# Altium schematic symbol library Intel.SchLib: 3 symbols
Pins are listed as number, name and electrical type; pins without a type are passive.

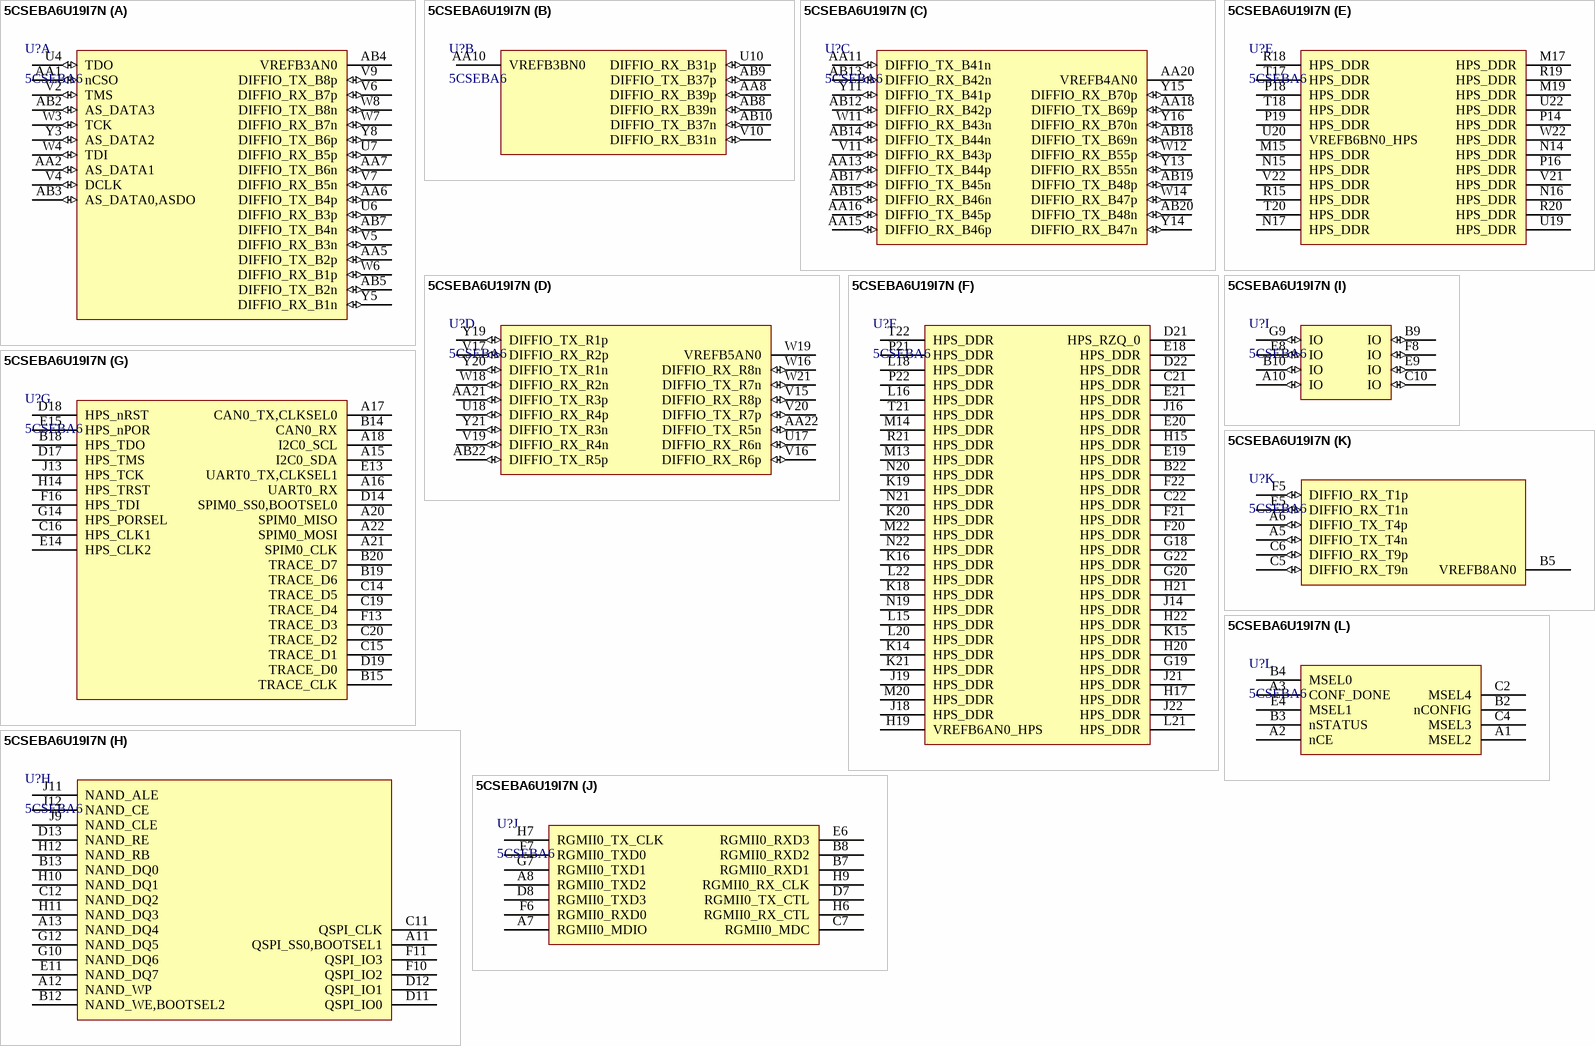
[diagram p0: symbol 5CSEBA6U19I7N]

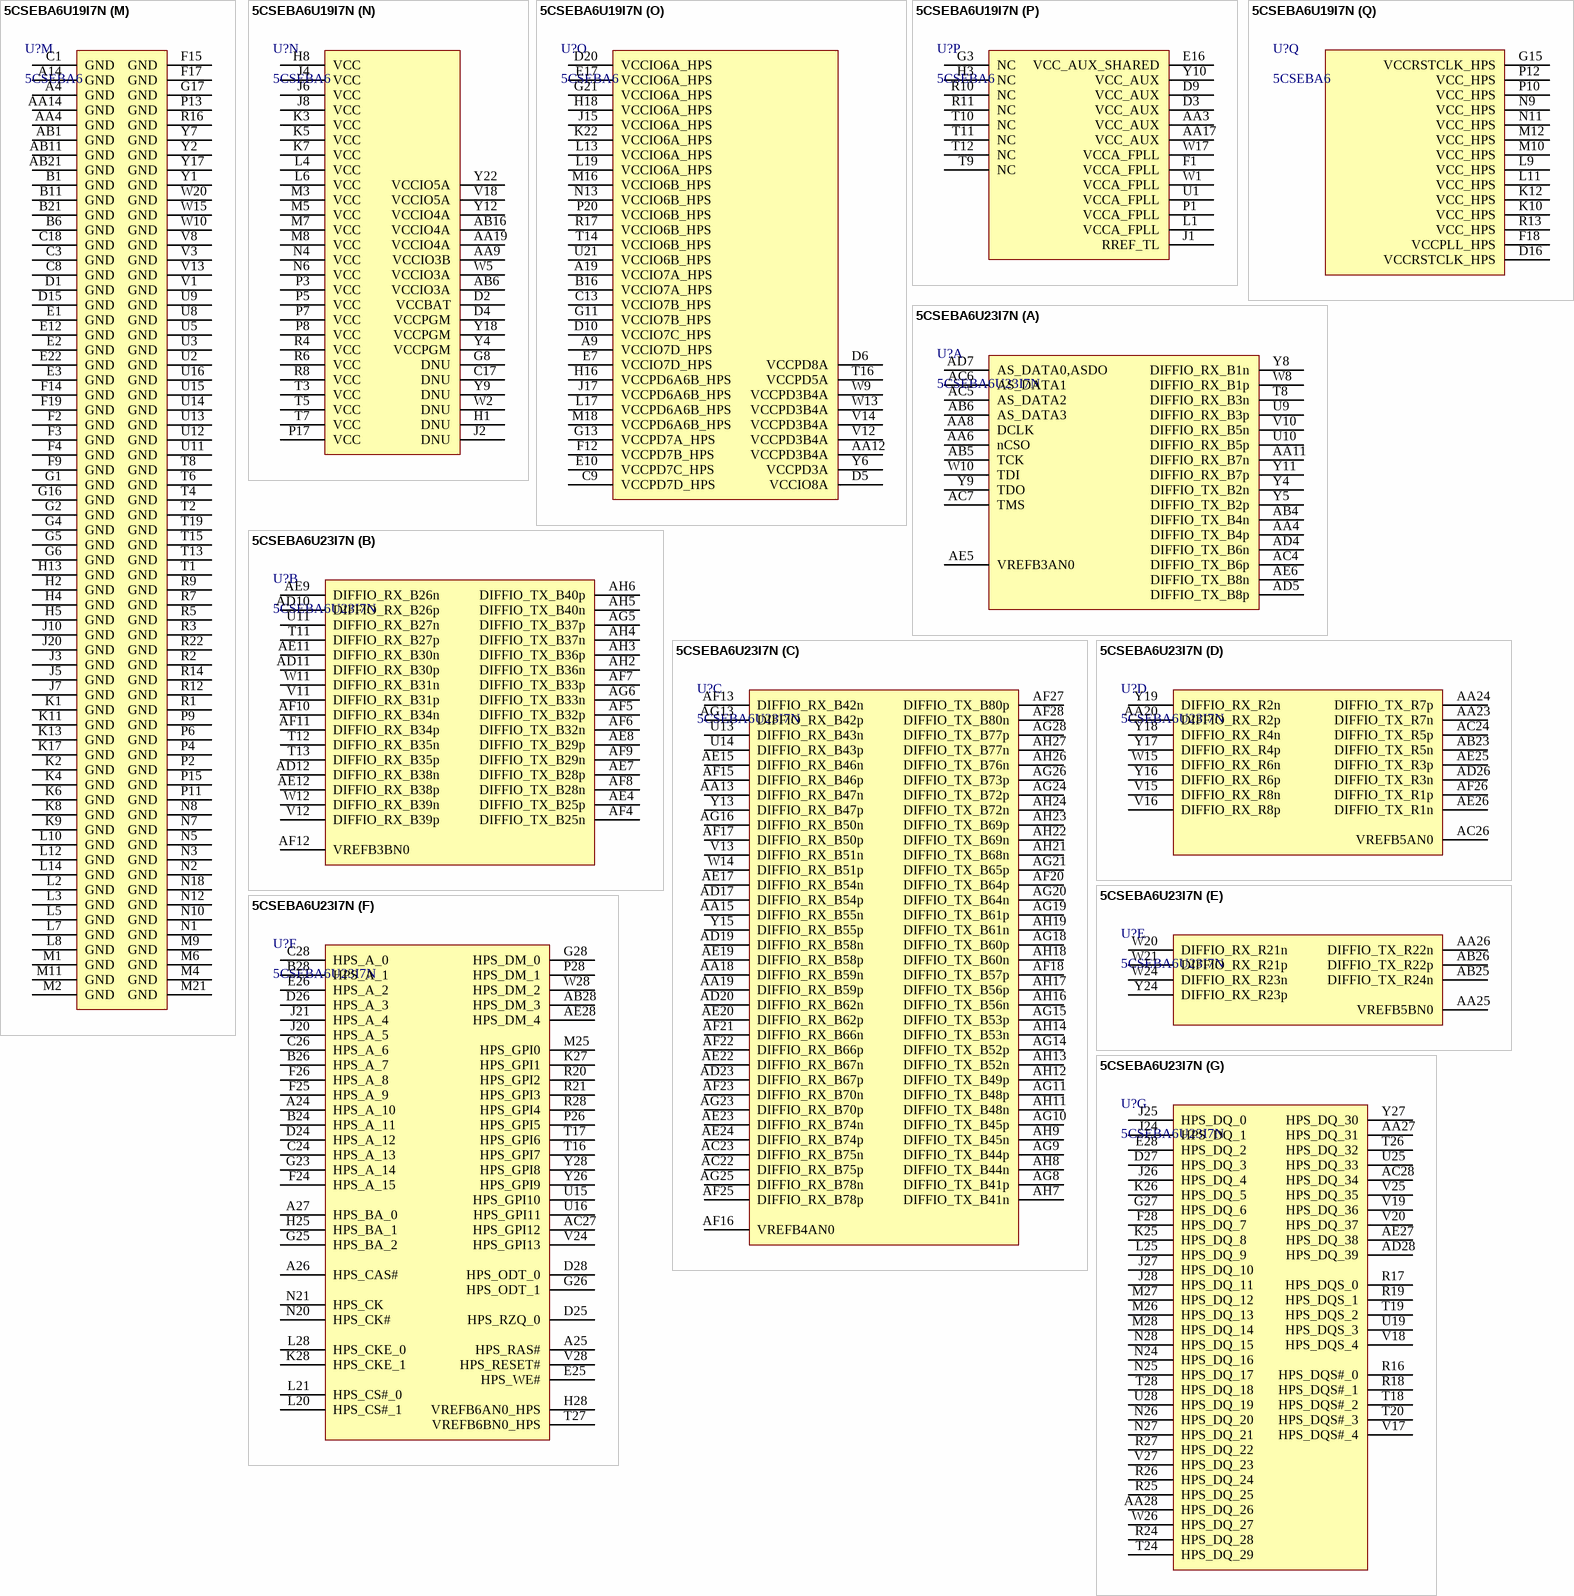
[diagram p1: symbols 5CSEBA6U19I7N to 5CSEBA6U23I7N]

## 5CSEBA6U19I7N
designator U?, comment 5CSEBA6
U19
part A pins: AA1 nCSO (io), AA2 AS_DATA1 (io), AA5 DIFFIO_TX_B2p (io), AA6 DIFFIO_TX_B4p (io), AA7 DIFFIO_TX_B6n (io), AB2 AS_DATA3 (io), AB3 AS_DATA0,ASDO (io), AB4 VREFB3AN0, AB5 DIFFIO_TX_B2n (io), AB7 DIFFIO_TX_B4n (io), U4 TDO (io), U6 DIFFIO_RX_B3p (io), U7 DIFFIO_RX_B5p (io), V2 TMS (io), V4 DCLK (io), V5 DIFFIO_RX_B3n (io), V6 DIFFIO_RX_B7p (io), V7 DIFFIO_RX_B5n (io), V9 DIFFIO_TX_B8p (io), W3 TCK (io), W4 TDI (io), W6 DIFFIO_RX_B1p (io), W7 DIFFIO_RX_B7n (io), W8 DIFFIO_TX_B8n (io), Y3 AS_DATA2 (io), Y5 DIFFIO_RX_B1n (io), Y8 DIFFIO_TX_B6p (io)
part B pins: AA8 DIFFIO_RX_B39p (io), AA10 VREFB3BN0, AB8 DIFFIO_RX_B39n (io), AB9 DIFFIO_TX_B37p (io), AB10 DIFFIO_TX_B37n (io), U10 DIFFIO_RX_B31p (io), V10 DIFFIO_RX_B31n (io)
part C pins: AA11 DIFFIO_TX_B41n (io), AA13 DIFFIO_TX_B44p (io), AA15 DIFFIO_RX_B46p (io), AA16 DIFFIO_TX_B45p (io), AA18 DIFFIO_TX_B69p (io), AA20 VREFB4AN0, AB12 DIFFIO_RX_B42p (io), AB13 DIFFIO_RX_B42n (io), AB14 DIFFIO_TX_B44n (io), AB15 DIFFIO_RX_B46n (io), AB17 DIFFIO_TX_B45n (io), AB18 DIFFIO_TX_B69n (io), AB19 DIFFIO_TX_B48p (io), AB20 DIFFIO_TX_B48n (io), V11 DIFFIO_RX_B43p (io), W11 DIFFIO_RX_B43n (io), W12 DIFFIO_RX_B55p (io), W14 DIFFIO_RX_B47p (io), Y11 DIFFIO_TX_B41p (io), Y13 DIFFIO_RX_B55n (io), Y14 DIFFIO_RX_B47n (io), Y15 DIFFIO_RX_B70p (io), Y16 DIFFIO_RX_B70n (io)
part D pins: AA21 DIFFIO_TX_R3p (io), AA22 DIFFIO_TX_R5n (io), AB22 DIFFIO_TX_R5p (io), U17 DIFFIO_RX_R6n (io), U18 DIFFIO_RX_R4p (io), V15 DIFFIO_RX_R8p (io), V16 DIFFIO_RX_R6p (io), V17 DIFFIO_RX_R2p (io), V19 DIFFIO_RX_R4n (io), V20 DIFFIO_TX_R7p (io), W16 DIFFIO_RX_R8n (io), W18 DIFFIO_RX_R2n (io), W19 VREFB5AN0, W21 DIFFIO_TX_R7n (io), Y19 DIFFIO_TX_R1p (io), Y20 DIFFIO_TX_R1n (io), Y21 DIFFIO_TX_R3n (io)
part E pins: M15 HPS_DDR, M17 HPS_DDR, M19 HPS_DDR, N14 HPS_DDR, N15 HPS_DDR, N16 HPS_DDR, N17 HPS_DDR, P14 HPS_DDR, P16 HPS_DDR, P18 HPS_DDR, P19 HPS_DDR, R15 HPS_DDR, R18 HPS_DDR, R19 HPS_DDR, R20 HPS_DDR, T17 HPS_DDR, T18 HPS_DDR, T20 HPS_DDR, U19 HPS_DDR, U20 VREFB6BN0_HPS, U22 HPS_DDR, V21 HPS_DDR, V22 HPS_DDR, W22 HPS_DDR
part F pins: B22 HPS_DDR, C21 HPS_DDR, C22 HPS_DDR, D21 HPS_RZQ_0, D22 HPS_DDR, E18 HPS_DDR, E19 HPS_DDR, E20 HPS_DDR, E21 HPS_DDR, F20 HPS_DDR, F21 HPS_DDR, F22 HPS_DDR, G18 HPS_DDR, G19 HPS_DDR, G20 HPS_DDR, G22 HPS_DDR, H15 HPS_DDR, H17 HPS_DDR, H19 VREFB6AN0_HPS, H20 HPS_DDR, H21 HPS_DDR, H22 HPS_DDR, J14 HPS_DDR, J16 HPS_DDR, J18 HPS_DDR, J19 HPS_DDR, J21 HPS_DDR, J22 HPS_DDR, K14 HPS_DDR, K15 HPS_DDR, K16 HPS_DDR, K18 HPS_DDR, K19 HPS_DDR, K20 HPS_DDR, K21 HPS_DDR, L15 HPS_DDR, L16 HPS_DDR, L18 HPS_DDR, L20 HPS_DDR, L21 HPS_DDR, L22 HPS_DDR, M13 HPS_DDR, M14 HPS_DDR, M20 HPS_DDR, M22 HPS_DDR, N19 HPS_DDR, N20 HPS_DDR, N21 HPS_DDR, N22 HPS_DDR, P21 HPS_DDR, P22 HPS_DDR, R21 HPS_DDR, T21 HPS_DDR, T22 HPS_DDR
part G pins: A15 I2C0_SDA, A16 UART0_RX, A17 CAN0_TX,CLKSEL0, A18 I2C0_SCL, A20 SPIM0_MISO, A21 SPIM0_CLK, A22 SPIM0_MOSI, B14 CAN0_RX, B15 TRACE_CLK, B18 HPS_TDO, B19 TRACE_D6, B20 TRACE_D7, C14 TRACE_D5, C15 TRACE_D1, C16 HPS_CLK1, C19 TRACE_D4, C20 TRACE_D2, D14 SPIM0_SS0,BOOTSEL0, D17 HPS_TMS, D18 HPS_nRST, D19 TRACE_D0, E13 UART0_TX,CLKSEL1, E14 HPS_CLK2, E15 HPS_nPOR, F13 TRACE_D3, F16 HPS_TDI, G14 HPS_PORSEL, H14 HPS_TRST, J13 HPS_TCK
part H pins: A11 QSPI_SS0,BOOTSEL1, A12 NAND_WP, A13 NAND_DQ4, B12 NAND_WE,BOOTSEL2, B13 NAND_DQ0, C11 QSPI_CLK, C12 NAND_DQ2, D11 QSPI_IO0, D12 QSPI_IO1, D13 NAND_RE, E11 NAND_DQ7, F10 QSPI_IO2, F11 QSPI_IO3, G10 NAND_DQ6, G12 NAND_DQ5, H10 NAND_DQ1, H11 NAND_DQ3, H12 NAND_RB, J9 NAND_CLE, J11 NAND_ALE, J12 NAND_CE
part I pins: A10 IO (io), B9 IO (io), B10 IO (io), C10 IO (io), E8 IO (io), E9 IO (io), F8 IO (io), G9 IO (io)
part J pins: A7 RGMII0_MDIO, A8 RGMII0_TXD2, B7 RGMII0_RXD1, B8 RGMII0_RXD2, C7 RGMII0_MDC, D7 RGMII0_TX_CTL, D8 RGMII0_TXD3, E6 RGMII0_RXD3, F6 RGMII0_RXD0, F7 RGMII0_TXD0, G7 RGMII0_TXD1, H6 RGMII0_RX_CTL, H7 RGMII0_TX_CLK, H9 RGMII0_RX_CLK
part K pins: A5 DIFFIO_TX_T4n (io), A6 DIFFIO_TX_T4p (io), B5 VREFB8AN0, C5 DIFFIO_RX_T9n (io), C6 DIFFIO_RX_T9p (io), E5 DIFFIO_RX_T1n (io), F5 DIFFIO_RX_T1p (io)
part L pins: A1 MSEL2, A2 nCE, A3 CONF_DONE, B2 nCONFIG, B3 nSTATUS, B4 MSEL0, C2 MSEL4, C4 MSEL3, E4 MSEL1
part M pins: A4 GND, A14 GND, AA4 GND, AA14 GND, AB1 GND, AB11 GND, AB21 GND, B1 GND, B6 GND, B11 GND, B21 GND, C1 GND, C3 GND, C8 GND, C18 GND, D1 GND, D15 GND, E1 GND, E2 GND, E3 GND, E12 GND, E22 GND, F2 GND, F3 GND, F4 GND, F9 GND, F14 GND, F15 GND, F17 GND, F19 GND, G1 GND, G2 GND, G4 GND, G5 GND, G6 GND, G16 GND, G17 GND, H2 GND, H4 GND, H5 GND, H13 GND, J3 GND, J5 GND, J7 GND, J10 GND, J20 GND, K1 GND, K2 GND, K4 GND, K6 GND, K8 GND, K9 GND, K11 GND, K13 GND, K17 GND, L2 GND, L3 GND, L5 GND, L7 GND, L8 GND, L10 GND, L12 GND, L14 GND, M1 GND, M2 GND, M4 GND, M6 GND, M9 GND, M11 GND, M21 GND, N1 GND, N2 GND, N3 GND, N5 GND, N7 GND, N8 GND, N10 GND, N12 GND, N18 GND, P2 GND, P4 GND, P6 GND, P9 GND, P11 GND, P13 GND, P15 GND, R1 GND, R2 GND, R3 GND, R5 GND, R7 GND, R9 GND, R12 GND, R14 GND, R16 GND, R22 GND, T1 GND, T2 GND, T4 GND, T6 GND, T8 GND, T13 GND, T15 GND, T19 GND, U2 GND, U3 GND, U5 GND, U8 GND, U9 GND, U11 GND, U12 GND, U13 GND, U14 GND, U15 GND, U16 GND, V1 GND, V3 GND, V8 GND, V13 GND, W10 GND, W15 GND, W20 GND, Y1 GND, Y2 GND, Y7 GND, Y17 GND
part N pins: AA9 VCCIO3B, AA19 VCCIO4A, AB6 VCCIO3A, AB16 VCCIO4A, C17 DNU, D2 VCCBAT, D4 VCCPGM, G8 DNU, H1 DNU, H8 VCC, J2 DNU, J4 VCC, J6 VCC, J8 VCC, K3 VCC, K5 VCC, K7 VCC, L4 VCC, L6 VCC, M3 VCC, M5 VCC, M7 VCC, M8 VCC, N4 VCC, N6 VCC, P3 VCC, P5 VCC, P7 VCC, P8 VCC, P17 VCC, R4 VCC, R6 VCC, R8 VCC, T3 VCC, T5 VCC, T7 VCC, V18 VCCIO5A, W2 DNU, W5 VCCIO3A, Y4 VCCPGM, Y9 DNU, Y12 VCCIO4A, Y18 VCCPGM, Y22 VCCIO5A
part O pins: A9 VCCIO7D_HPS, A19 VCCIO7A_HPS, AA12 VCCPD3B4A, B16 VCCIO7A_HPS, C9 VCCPD7D_HPS, C13 VCCIO7B_HPS, D5 VCCIO8A, D6 VCCPD8A, D10 VCCIO7C_HPS, D20 VCCIO6A_HPS, E7 VCCIO7D_HPS, E10 VCCPD7C_HPS, E17 VCCIO6A_HPS, F12 VCCPD7B_HPS, G11 VCCIO7B_HPS, G13 VCCPD7A_HPS, G21 VCCIO6A_HPS, H16 VCCPD6A6B_HPS, H18 VCCIO6A_HPS, J15 VCCIO6A_HPS, J17 VCCPD6A6B_HPS, K22 VCCIO6A_HPS, L13 VCCIO6A_HPS, L17 VCCPD6A6B_HPS, L19 VCCIO6A_HPS, M16 VCCIO6B_HPS, M18 VCCPD6A6B_HPS, N13 VCCIO6B_HPS, P20 VCCIO6B_HPS, R17 VCCIO6B_HPS, T14 VCCIO6B_HPS, T16 VCCPD5A, U21 VCCIO6B_HPS, V12 VCCPD3B4A, V14 VCCPD3B4A, W9 VCCPD3B4A, W13 VCCPD3B4A, Y6 VCCPD3A
part P pins: AA3 VCC_AUX, AA17 VCC_AUX, D3 VCC_AUX, D9 VCC_AUX, E16 VCC_AUX_SHARED, F1 VCCA_FPLL, G3 NC, H3 NC, J1 RREF_TL, L1 VCCA_FPLL, P1 VCCA_FPLL, R10 NC, R11 NC, T9 NC, T10 NC, T11 NC, T12 NC, U1 VCCA_FPLL, W1 VCCA_FPLL, W17 VCCA_FPLL, Y10 VCC_AUX
part Q pins: D16 VCCRSTCLK_HPS, F18 VCCPLL_HPS, G15 VCCRSTCLK_HPS, K10 VCC_HPS, K12 VCC_HPS, L9 VCC_HPS, L11 VCC_HPS, M10 VCC_HPS, M12 VCC_HPS, N9 VCC_HPS, N11 VCC_HPS, P10 VCC_HPS, P12 VCC_HPS, R13 VCC_HPS

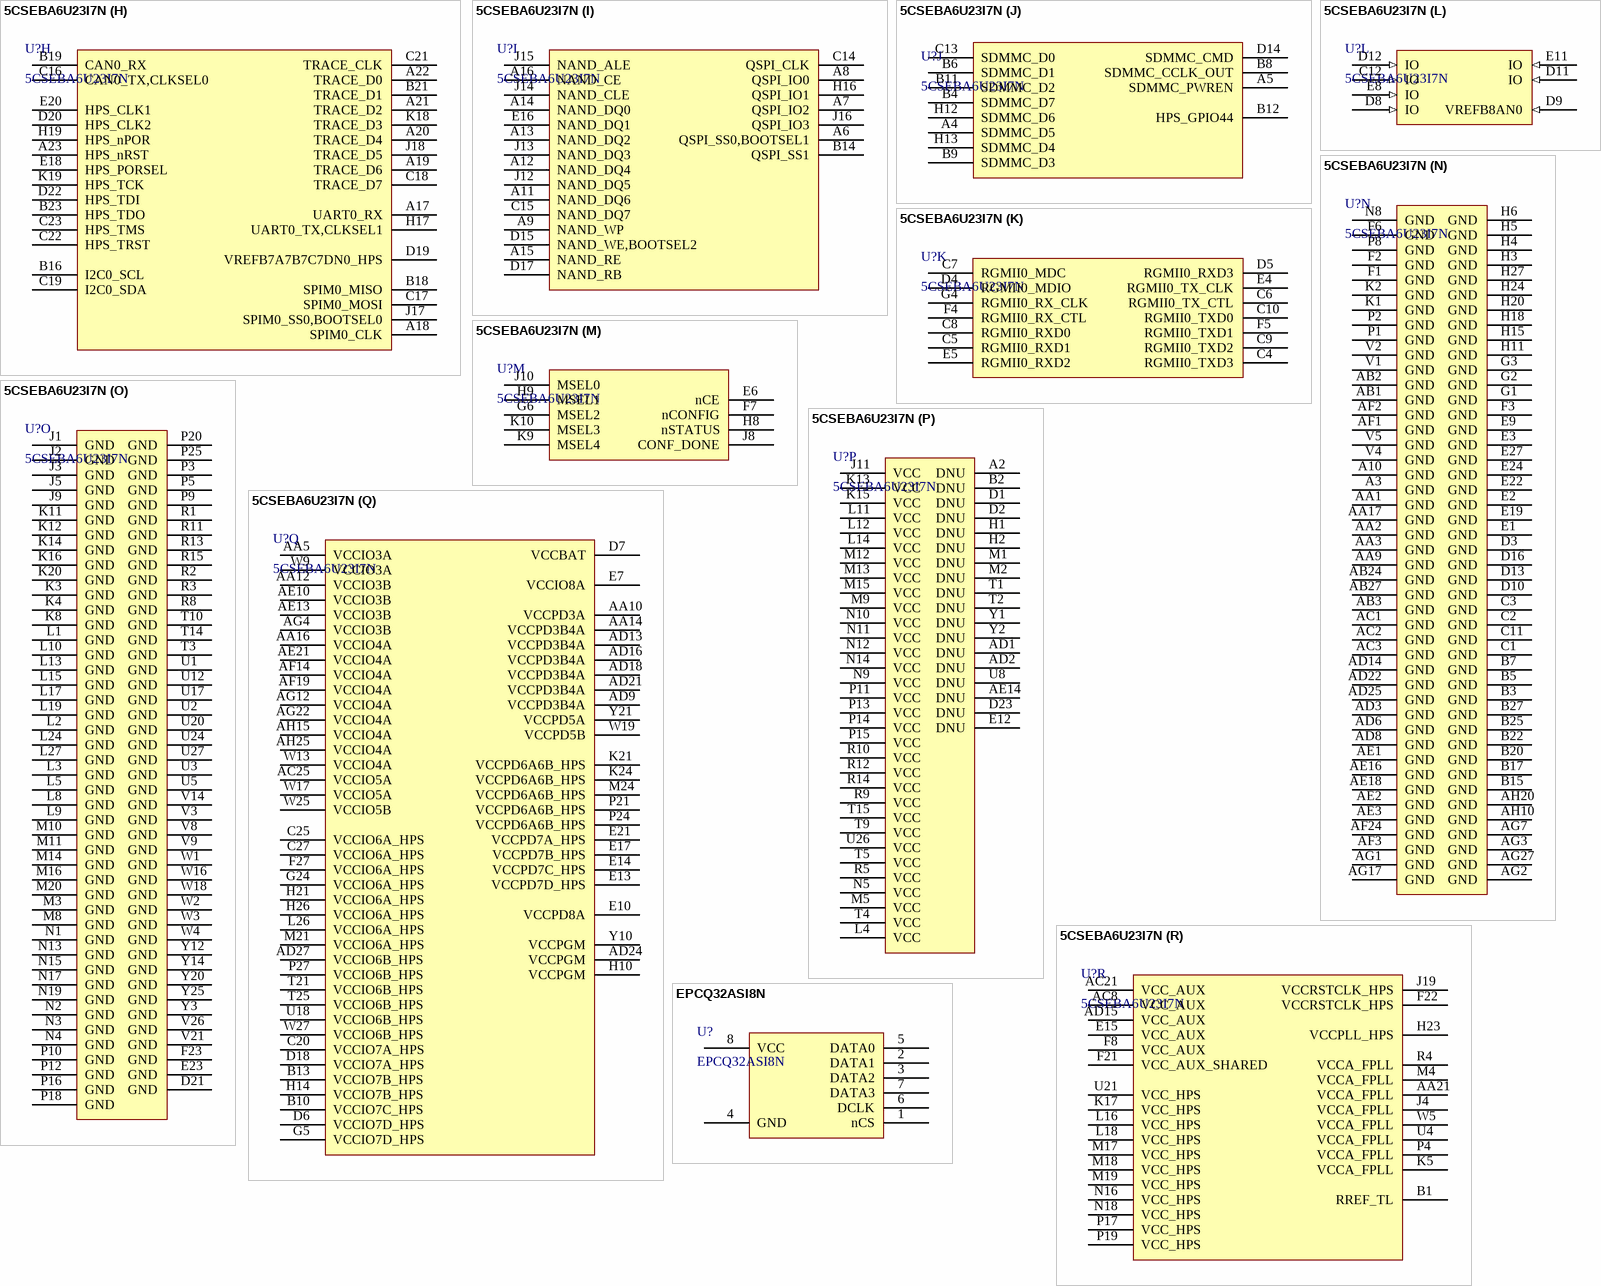
[diagram p2: symbols 5CSEBA6U23I7N to EPCQ32ASI8N]

## 5CSEBA6U23I7N
designator U?
U23
part A pins: AA4 DIFFIO_TX_B4p, AA6 nCSO, AA8 DCLK, AA11 DIFFIO_RX_B7n, AB4 DIFFIO_TX_B4n, AB5 TCK, AB6 AS_DATA3, AC4 DIFFIO_TX_B6p, AC5 AS_DATA2, AC6 AS_DATA1, AC7 TMS, AD4 DIFFIO_TX_B6n, AD5 DIFFIO_TX_B8p, AD7 AS_DATA0,ASDO, AE5 VREFB3AN0, AE6 DIFFIO_TX_B8n, T8 DIFFIO_RX_B3n, U9 DIFFIO_RX_B3p, U10 DIFFIO_RX_B5p, V10 DIFFIO_RX_B5n, W8 DIFFIO_RX_B1p, W10 TDI, Y4 DIFFIO_TX_B2n, Y5 DIFFIO_TX_B2p, Y8 DIFFIO_RX_B1n, Y9 TDO, Y11 DIFFIO_RX_B7p
part B pins: AD10 DIFFIO_RX_B26p, AD11 DIFFIO_RX_B30p, AD12 DIFFIO_RX_B38n, AE4 DIFFIO_TX_B25p, AE7 DIFFIO_TX_B28p, AE8 DIFFIO_TX_B29p, AE9 DIFFIO_RX_B26n, AE11 DIFFIO_RX_B30n, AE12 DIFFIO_RX_B38p, AF4 DIFFIO_TX_B25n, AF5 DIFFIO_TX_B32p, AF6 DIFFIO_TX_B32n, AF7 DIFFIO_TX_B33p, AF8 DIFFIO_TX_B28n, AF9 DIFFIO_TX_B29n, AF10 DIFFIO_RX_B34n, AF11 DIFFIO_RX_B34p, AF12 VREFB3BN0, AG5 DIFFIO_TX_B37p, AG6 DIFFIO_TX_B33n, AH2 DIFFIO_TX_B36n, AH3 DIFFIO_TX_B36p, AH4 DIFFIO_TX_B37n, AH5 DIFFIO_TX_B40n, AH6 DIFFIO_TX_B40p, T11 DIFFIO_RX_B27p, T12 DIFFIO_RX_B35n, T13 DIFFIO_RX_B35p, U11 DIFFIO_RX_B27n, V11 DIFFIO_RX_B31p, V12 DIFFIO_RX_B39p, W11 DIFFIO_RX_B31n, W12 DIFFIO_RX_B39n
part C pins: AA13 DIFFIO_RX_B47n, AA15 DIFFIO_RX_B55n, AA18 DIFFIO_RX_B59n, AA19 DIFFIO_RX_B59p, AC22 DIFFIO_RX_B75p, AC23 DIFFIO_RX_B75n, AD17 DIFFIO_RX_B54p, AD19 DIFFIO_RX_B58n, AD20 DIFFIO_RX_B62n, AD23 DIFFIO_RX_B67p, AE15 DIFFIO_RX_B46n, AE17 DIFFIO_RX_B54n, AE19 DIFFIO_RX_B58p, AE20 DIFFIO_RX_B62p, AE22 DIFFIO_RX_B67n, AE23 DIFFIO_RX_B74n, AE24 DIFFIO_RX_B74p, AF13 DIFFIO_RX_B42n, AF15 DIFFIO_RX_B46p, AF16 VREFB4AN0, AF17 DIFFIO_RX_B50p, AF18 DIFFIO_TX_B57p, AF20 DIFFIO_TX_B64p, AF21 DIFFIO_RX_B66n, AF22 DIFFIO_RX_B66p, AF23 DIFFIO_RX_B70n, AF25 DIFFIO_RX_B78p, AF27 DIFFIO_TX_B80p, AF28 DIFFIO_TX_B80n, AG8 DIFFIO_TX_B41p, AG9 DIFFIO_TX_B44p, AG10 DIFFIO_TX_B45p, AG11 DIFFIO_TX_B48p, AG13 DIFFIO_RX_B42p, AG14 DIFFIO_TX_B52p, AG15 DIFFIO_TX_B53p, AG16 DIFFIO_RX_B50n, AG18 DIFFIO_TX_B60p, AG19 DIFFIO_TX_B61p, AG20 DIFFIO_TX_B64n, AG21 DIFFIO_TX_B65p, AG23 DIFFIO_RX_B70p, AG24 DIFFIO_TX_B72p, AG25 DIFFIO_RX_B78n, AG26 DIFFIO_TX_B73p, AG28 DIFFIO_TX_B77p, AH7 DIFFIO_TX_B41n, AH8 DIFFIO_TX_B44n, AH9 DIFFIO_TX_B45n, AH11 DIFFIO_TX_B48n, AH12 DIFFIO_TX_B49p, AH13 DIFFIO_TX_B52n, AH14 DIFFIO_TX_B53n, AH16 DIFFIO_TX_B56n, AH17 DIFFIO_TX_B56p, AH18 DIFFIO_TX_B60n, AH19 DIFFIO_TX_B61n, AH21 DIFFIO_TX_B68n, AH22 DIFFIO_TX_B69n, AH23 DIFFIO_TX_B69p, AH24 DIFFIO_TX_B72n, AH26 DIFFIO_TX_B76n, AH27 DIFFIO_TX_B77n, U13 DIFFIO_RX_B43n, U14 DIFFIO_RX_B43p, V13 DIFFIO_RX_B51n, W14 DIFFIO_RX_B51p, Y13 DIFFIO_RX_B47p, Y15 DIFFIO_RX_B55p
part D pins: AA20 DIFFIO_RX_R2p, AA23 DIFFIO_TX_R7n, AA24 DIFFIO_TX_R7p, AB23 DIFFIO_TX_R5n, AC24 DIFFIO_TX_R5p, AC26 VREFB5AN0, AD26 DIFFIO_TX_R3n, AE25 DIFFIO_TX_R3p, AE26 DIFFIO_TX_R1n, AF26 DIFFIO_TX_R1p, V15 DIFFIO_RX_R8n, V16 DIFFIO_RX_R8p, W15 DIFFIO_RX_R6n, Y16 DIFFIO_RX_R6p, Y17 DIFFIO_RX_R4p, Y18 DIFFIO_RX_R4n, Y19 DIFFIO_RX_R2n
part E pins: AA25 VREFB5BN0, AA26 DIFFIO_TX_R22n, AB25 DIFFIO_TX_R24n, AB26 DIFFIO_TX_R22p, W20 DIFFIO_RX_R21n, W21 DIFFIO_RX_R21p, W24 DIFFIO_RX_R23n, Y24 DIFFIO_RX_R23p
part F pins: A24 HPS_A_10, A25 HPS_RAS#, A26 HPS_CAS#, A27 HPS_BA_0, AB28 HPS_DM_3, AC27 HPS_GPI12, AE28 HPS_DM_4, B24 HPS_A_11, B26 HPS_A_7, B28 HPS_A_1, C24 HPS_A_13, C26 HPS_A_6, C28 HPS_A_0, D24 HPS_A_12, D25 HPS_RZQ_0, D26 HPS_A_3, D28 HPS_ODT_0, E25 HPS_WE#, E26 HPS_A_2, F24 HPS_A_15, F25 HPS_A_9, F26 HPS_A_8, G23 HPS_A_14, G25 HPS_BA_2, G26 HPS_ODT_1, G28 HPS_DM_0, H25 HPS_BA_1, H28 VREFB6AN0_HPS, J20 HPS_A_5, J21 HPS_A_4, K27 HPS_GPI1, K28 HPS_CKE_1, L20 HPS_CS#_1, L21 HPS_CS#_0, L28 HPS_CKE_0, M25 HPS_GPI0, N20 HPS_CK#, N21 HPS_CK, P26 HPS_GPI5, P28 HPS_DM_1, R20 HPS_GPI2, R21 HPS_GPI3, R28 HPS_GPI4, T16 HPS_GPI7, T17 HPS_GPI6, T27 VREFB6BN0_HPS, U15 HPS_GPI10, U16 HPS_GPI11, V24 HPS_GPI13, V28 HPS_RESET#, W28 HPS_DM_2, Y26 HPS_GPI9, Y28 HPS_GPI8
part G pins: AA27 HPS_DQ_31, AA28 HPS_DQ_26, AC28 HPS_DQ_34, AD28 HPS_DQ_39, AE27 HPS_DQ_38, D27 HPS_DQ_3, E28 HPS_DQ_2, F28 HPS_DQ_7, G27 HPS_DQ_6, J24 HPS_DQ_1, J25 HPS_DQ_0, J26 HPS_DQ_4, J27 HPS_DQ_10, J28 HPS_DQ_11, K25 HPS_DQ_8, K26 HPS_DQ_5, L25 HPS_DQ_9, M26 HPS_DQ_13, M27 HPS_DQ_12, M28 HPS_DQ_14, N24 HPS_DQ_16, N25 HPS_DQ_17, N26 HPS_DQ_20, N27 HPS_DQ_21, N28 HPS_DQ_15, R16 HPS_DQS#_0, R17 HPS_DQS_0, R18 HPS_DQS#_1, R19 HPS_DQS_1, R24 HPS_DQ_28, R25 HPS_DQ_25, R26 HPS_DQ_24, R27 HPS_DQ_22, T18 HPS_DQS#_2, T19 HPS_DQS_2, T20 HPS_DQS#_3, T24 HPS_DQ_29, T26 HPS_DQ_32, T28 HPS_DQ_18, U19 HPS_DQS_3, U25 HPS_DQ_33, U28 HPS_DQ_19, V17 HPS_DQS#_4, V18 HPS_DQS_4, V19 HPS_DQ_36, V20 HPS_DQ_37, V25 HPS_DQ_35, V27 HPS_DQ_23, W26 HPS_DQ_27, Y27 HPS_DQ_30
part H pins: A17 UART0_RX, A18 SPIM0_CLK, A19 TRACE_D6, A20 TRACE_D4, A21 TRACE_D2, A22 TRACE_D0, A23 HPS_nRST, B16 I2C0_SCL, B18 SPIM0_MISO, B19 CAN0_RX, B21 TRACE_D1, B23 HPS_TDO, C16 CAN0_TX,CLKSEL0, C17 SPIM0_MOSI, C18 TRACE_D7, C19 I2C0_SDA, C21 TRACE_CLK, C22 HPS_TRST, C23 HPS_TMS, D19 VREFB7A7B7C7DN0_HPS, D20 HPS_CLK2, D22 HPS_TDI, E18 HPS_PORSEL, E20 HPS_CLK1, H17 UART0_TX,CLKSEL1, H19 HPS_nPOR, J17 SPIM0_SS0,BOOTSEL0, J18 TRACE_D5, K18 TRACE_D3, K19 HPS_TCK
part I pins: A6 QSPI_SS0,BOOTSEL1, A7 QSPI_IO2, A8 QSPI_IO0, A9 NAND_WP, A11 NAND_DQ6, A12 NAND_DQ4, A13 NAND_DQ2, A14 NAND_DQ0, A15 NAND_RE, A16 NAND_CE, B14 QSPI_SS1, C14 QSPI_CLK, C15 NAND_DQ7, D15 NAND_WE,BOOTSEL2, D17 NAND_RB, E16 NAND_DQ1, H16 QSPI_IO1, J12 NAND_DQ5, J13 NAND_DQ3, J14 NAND_CLE, J15 NAND_ALE, J16 QSPI_IO3
part J pins: A4 SDMMC_D5, A5 SDMMC_PWREN, B4 SDMMC_D7, B6 SDMMC_D1, B8 SDMMC_CCLK_OUT, B9 SDMMC_D3, B11 SDMMC_D2, B12 HPS_GPIO44, C13 SDMMC_D0, D14 SDMMC_CMD, H12 SDMMC_D6, H13 SDMMC_D4
part K pins: C4 RGMII0_TXD3, C5 RGMII0_RXD1, C6 RGMII0_TX_CTL, C7 RGMII0_MDC, C8 RGMII0_RXD0, C9 RGMII0_TXD2, C10 RGMII0_TXD0, D4 RGMII0_MDIO, D5 RGMII0_RXD3, E4 RGMII0_TX_CLK, E5 RGMII0_RXD2, F4 RGMII0_RX_CTL, F5 RGMII0_TXD1, G4 RGMII0_RX_CLK
part L pins: C12 IO (in), D8 IO (in), D9 VREFB8AN0 (in), D11 IO (in), D12 IO (in), E8 IO (in), E11 IO (in)
part M pins: E6 nCE, F7 nCONFIG, G6 MSEL2, H8 nSTATUS, H9 MSEL1, J8 CONF_DONE, J10 MSEL0, K9 MSEL4, K10 MSEL3
part N pins: A3 GND, A10 GND, AA1 GND, AA2 GND, AA3 GND, AA9 GND, AA17 GND, AB1 GND, AB2 GND, AB3 GND, AB24 GND, AB27 GND, AC1 GND, AC2 GND, AC3 GND, AD3 GND, AD6 GND, AD8 GND, AD14 GND, AD22 GND, AD25 GND, AE1 GND, AE2 GND, AE3 GND, AE16 GND, AE18 GND, AF1 GND, AF2 GND, AF3 GND, AF24 GND, AG1 GND, AG2 GND, AG3 GND, AG7 GND, AG17 GND, AG27 GND, AH10 GND, AH20 GND, B3 GND, B5 GND, B7 GND, B15 GND, B17 GND, B20 GND, B22 GND, B25 GND, B27 GND, C1 GND, C2 GND, C3 GND, C11 GND, D3 GND, D10 GND, D13 GND, D16 GND, E1 GND, E2 GND, E3 GND, E9 GND, E19 GND, E22 GND, E24 GND, E27 GND, F1 GND, F2 GND, F3 GND, F6 GND, G1 GND, G2 GND, G3 GND, H3 GND, H4 GND, H5 GND, H6 GND, H11 GND, H15 GND, H18 GND, H20 GND, H24 GND, H27 GND, K1 GND, K2 GND, N8 GND, P1 GND, P2 GND, P8 GND, V1 GND, V2 GND, V4 GND, V5 GND
part O pins: D21 GND, E23 GND, F23 GND, J1 GND, J2 GND, J3 GND, J5 GND, J9 GND, K3 GND, K4 GND, K8 GND, K11 GND, K12 GND, K14 GND, K16 GND, K20 GND, L1 GND, L2 GND, L3 GND, L5 GND, L8 GND, L9 GND, L10 GND, L13 GND, L15 GND, L17 GND, L19 GND, L24 GND, L27 GND, M3 GND, M8 GND, M10 GND, M11 GND, M14 GND, M16 GND, M20 GND, N1 GND, N2 GND, N3 GND, N4 GND, N13 GND, N15 GND, N17 GND, N19 GND, P3 GND, P5 GND, P9 GND, P10 GND, P12 GND, P16 GND, P18 GND, P20 GND, P25 GND, R1 GND, R2 GND, R3 GND, R8 GND, R11 GND, R13 GND, R15 GND, T3 GND, T10 GND, T14 GND, U1 GND, U2 GND, U3 GND, U5 GND, U12 GND, U17 GND, U20 GND, U24 GND, U27 GND, V3 GND, V8 GND, V9 GND, V14 GND, V21 GND, V26 GND, W1 GND, W2 GND, W3 GND, W4 GND, W16 GND, W18 GND, Y3 GND, Y12 GND, Y14 GND, Y20 GND, Y25 GND
part P pins: A2 DNU, AD1 DNU, AD2 DNU, AE14 DNU, B2 DNU, D1 DNU, D2 DNU, D23 DNU, E12 DNU, H1 DNU, H2 DNU, J11 VCC, K13 VCC, K15 VCC, L4 VCC, L11 VCC, L12 VCC, L14 VCC, M1 DNU, M2 DNU, M5 VCC, M9 VCC, M12 VCC, M13 VCC, M15 VCC, N5 VCC, N9 VCC, N10 VCC, N11 VCC, N12 VCC, N14 VCC, P11 VCC, P13 VCC, P14 VCC, P15 VCC, R5 VCC, R9 VCC, R10 VCC, R12 VCC, R14 VCC, T1 DNU, T2 DNU, T4 VCC, T5 VCC, T9 VCC, T15 VCC, U8 DNU, U26 VCC, Y1 DNU, Y2 DNU
part Q pins: AA5 VCCIO3A, AA10 VCCPD3A, AA12 VCCIO3B, AA14 VCCPD3B4A, AA16 VCCIO4A, AC25 VCCIO5A, AD9 VCCPD3B4A, AD13 VCCPD3B4A, AD16 VCCPD3B4A, AD18 VCCPD3B4A, AD21 VCCPD3B4A, AD24 VCCPGM, AD27 VCCIO6B_HPS, AE10 VCCIO3B, AE13 VCCIO3B, AE21 VCCIO4A, AF14 VCCIO4A, AF19 VCCIO4A, AG4 VCCIO3B, AG12 VCCIO4A, AG22 VCCIO4A, AH15 VCCIO4A, AH25 VCCIO4A, B10 VCCIO7C_HPS, B13 VCCIO7B_HPS, C20 VCCIO7A_HPS, C25 VCCIO6A_HPS, C27 VCCIO6A_HPS, D6 VCCIO7D_HPS, D7 VCCBAT, D18 VCCIO7A_HPS, E7 VCCIO8A, E10 VCCPD8A, E13 VCCPD7D_HPS, E14 VCCPD7C_HPS, E17 VCCPD7B_HPS, E21 VCCPD7A_HPS, F27 VCCIO6A_HPS, G5 VCCIO7D_HPS, G24 VCCIO6A_HPS, H10 VCCPGM, H14 VCCIO7B_HPS, H21 VCCIO6A_HPS, H26 VCCIO6A_HPS, K21 VCCPD6A6B_HPS, K24 VCCPD6A6B_HPS, L26 VCCIO6A_HPS, M21 VCCIO6A_HPS, M24 VCCPD6A6B_HPS, P21 VCCPD6A6B_HPS, P24 VCCPD6A6B_HPS, P27 VCCIO6B_HPS, T21 VCCIO6B_HPS, T25 VCCIO6B_HPS, U18 VCCIO6B_HPS, W9 VCCIO3A, W13 VCCIO4A, W17 VCCIO5A, W19 VCCPD5B, W25 VCCIO5B, W27 VCCIO6B_HPS, Y10 VCCPGM, Y21 VCCPD5A
part R pins: AA21 VCCA_FPLL, AC8 VCC_AUX, AC21 VCC_AUX, AD15 VCC_AUX, B1 RREF_TL, E15 VCC_AUX, F8 VCC_AUX, F21 VCC_AUX_SHARED, F22 VCCRSTCLK_HPS, H23 VCCPLL_HPS, J4 VCCA_FPLL, J19 VCCRSTCLK_HPS, K5 VCCA_FPLL, K17 VCC_HPS, L16 VCC_HPS, L18 VCC_HPS, M4 VCCA_FPLL, M17 VCC_HPS, M18 VCC_HPS, M19 VCC_HPS, N16 VCC_HPS, N18 VCC_HPS, P4 VCCA_FPLL, P17 VCC_HPS, P19 VCC_HPS, R4 VCCA_FPLL, U4 VCCA_FPLL, U21 VCC_HPS, W5 VCCA_FPLL

## EPCQ32ASI8N
designator U?
pins: 1 nCS, 2 DATA1, 3 DATA2, 4 GND, 5 DATA0, 6 DCLK, 7 DATA3, 8 VCC